# EAGLE library part SN74BCT25244DW (library custom_dzmitry)
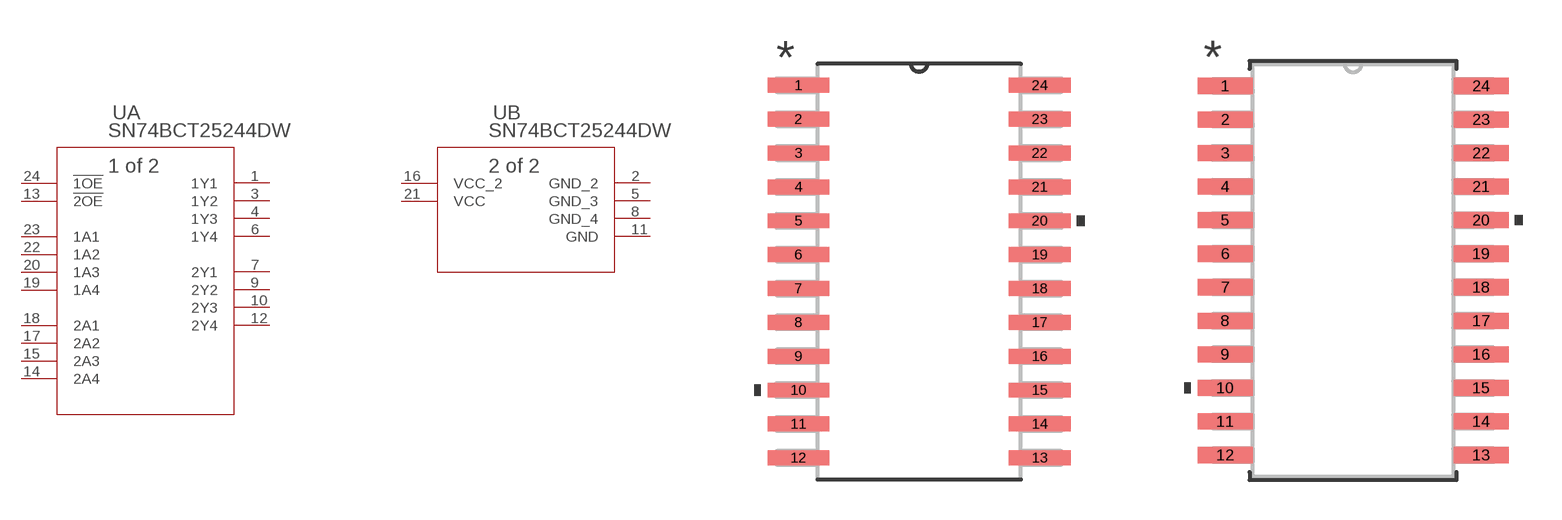
[diagram p1: symbol with the pads of DW24; footprints DW24, DW24-M]

Designator prefix U; gates A=SN74BCT25244_DW_24 B=SN74BCT25244_DW_24_A

## SN74BCT25244DW (DATASHEET_URL: http://www.ti.com/lit/gpn/SN74BCT25244; DESCRIPTION: Octal 25-Ohm Buffers/Drivers With 3-State Outputs; FAMILY_NAME: NON-INVERTING BUFFER/DRIVER; GENERIC_PART_NUMBER: SN74BCT25244; INDUSTRY_STD_PKG_TYPE: SOIC; MANUFACTURER: Texas Instruments; PACKAGE_DESIGNATOR: DW; PIN_COUNT: 24)  [DW24]
1  A:1Y1  out
2  B:GND_2  pwr
3  A:1Y2  out
4  A:1Y3  out
5  B:GND_3  pwr
6  A:1Y4  out
7  A:2Y1  out
8  B:GND_4  pwr
9  A:2Y2  out
10  A:2Y3  out
11  B:GND  pwr
12  A:2Y4  out
13  A:!2OE  in
14  A:2A4  in
15  A:2A3  in
16  B:VCC_2  pwr
17  A:2A2  in
18  A:2A1  in
19  A:1A4  in
20  A:1A3  in
21  B:VCC  pwr
22  A:1A2  in
23  A:1A1  in
24  A:!1OE  in

## SN74BCT25244DWDW24-M (DATASHEET_URL: http://www.ti.com/lit/gpn/SN74BCT25244; DESCRIPTION: Octal 25-Ohm Buffers/Drivers With 3-State Outputs; FAMILY_NAME: NON-INVERTING BUFFER/DRIVER; GENERIC_PART_NUMBER: SN74BCT25244; INDUSTRY_STD_PKG_TYPE: SOIC; MANUFACTURER: Texas Instruments; PACKAGE_DESIGNATOR: DW; PIN_COUNT: 24)  [DW24-M]
Pads as for DW24

## SN74BCT25244DWDW24-L (DATASHEET_URL: http://www.ti.com/lit/gpn/SN74BCT25244; DESCRIPTION: Octal 25-Ohm Buffers/Drivers With 3-State Outputs; FAMILY_NAME: NON-INVERTING BUFFER/DRIVER; GENERIC_PART_NUMBER: SN74BCT25244; INDUSTRY_STD_PKG_TYPE: SOIC; MANUFACTURER: Texas Instruments; PACKAGE_DESIGNATOR: DW; PIN_COUNT: 24)  [DW24-L]
Pads as for DW24

## Footprint DW24 (pad centres in mm)
smd 2.311 x 0.559: 1 -4.521,6.985; 2 -4.521,5.715; 3 -4.521,4.445; 4 -4.521,3.175; 5 -4.521,1.905; 6 -4.521,0.635; 7 -4.521,-0.635; 8 -4.521,-1.905; 9 -4.521,-3.175; 10 -4.521,-4.445; 11 -4.521,-5.715; 12 -4.521,-6.985; 13 4.521,-6.985; 14 4.521,-5.715; 15 4.521,-4.445; 16 4.521,-3.175; 17 4.521,-1.905; 18 4.521,-0.635; 19 4.521,0.635; 20 4.521,1.905; 21 4.521,3.175; 22 4.521,4.445; 23 4.521,5.715; 24 4.521,6.985

## Footprint DW24-M (pad centres in mm)
smd 2.083 x 0.61: 1 -4.839,6.985; 2 -4.839,5.715; 3 -4.839,4.445; 4 -4.839,3.175; 5 -4.839,1.905; 6 -4.839,0.635; 7 -4.839,-0.635; 8 -4.839,-1.905; 9 -4.839,-3.175; 10 -4.839,-4.445; 11 -4.839,-5.715; 12 -4.839,-6.985; 13 4.839,-6.985; 14 4.839,-5.715; 15 4.839,-4.445; 16 4.839,-3.175; 17 4.839,-1.905; 18 4.839,-0.635; 19 4.839,0.635; 20 4.839,1.905; 21 4.839,3.175; 22 4.839,4.445; 23 4.839,5.715; 24 4.839,6.985

## Footprint DW24-L (pad centres in mm)
smd 1.676 x 0.508: 1 -4.636,6.985; 2 -4.636,5.715; 3 -4.636,4.445; 4 -4.636,3.175; 5 -4.636,1.905; 6 -4.636,0.635; 7 -4.636,-0.635; 8 -4.636,-1.905; 9 -4.636,-3.175; 10 -4.636,-4.445; 11 -4.636,-5.715; 12 -4.636,-6.985; 13 4.636,-6.985; 14 4.636,-5.715; 15 4.636,-4.445; 16 4.636,-3.175; 17 4.636,-1.905; 18 4.636,-0.635; 19 4.636,0.635; 20 4.636,1.905; 21 4.636,3.175; 22 4.636,4.445; 23 4.636,5.715; 24 4.636,6.985